# EAGLE library part PIC16F1829 (library carrilib)
Microcontroller, 8 bit Manufacturer: Microchip Part Number: PIC16F1829
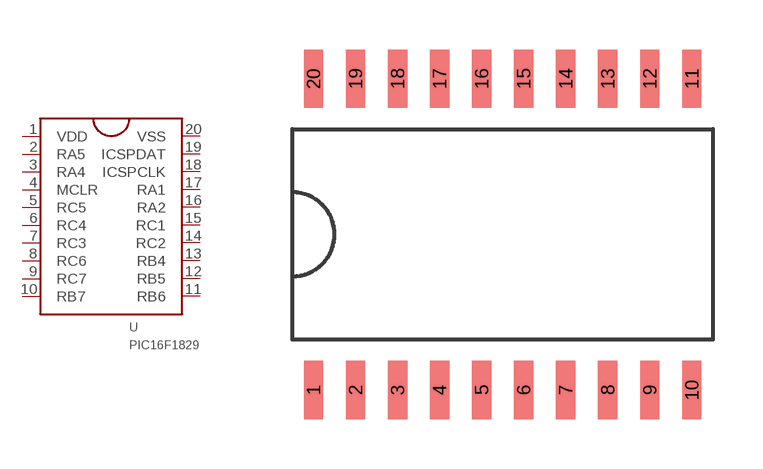
[diagram p15: symbol with the pads of SO20W; footprint SO20W]

Designator prefix U

## PIC16F1829  [SO20W]
1  VDD
2  RA5
3  RA4
4  MCLR
5  RC5
6  RC4
7  RC3
8  RC6
9  RC7
10  RB7
11  RB6
12  RB5
13  RB4
14  RC2
15  RC1
16  RA2
17  RA1
18  ICSPCLK
19  ICSPDAT
20  VSS

## Footprint SO20W (pad centres in mm)
smd 0.584 x 1.753: 1 -5.715,-4.699; 2 -4.445,-4.699; 3 -3.175,-4.699; 4 -1.905,-4.699; 5 -0.635,-4.699; 6 0.635,-4.699; 7 1.905,-4.699; 8 3.175,-4.699; 9 4.445,-4.699; 10 5.715,-4.699; 11 5.715,4.699; 12 4.445,4.699; 13 3.175,4.699; 14 1.905,4.699; 15 0.635,4.699; 16 -0.635,4.699; 17 -1.905,4.699; 18 -3.175,4.699; 19 -4.445,4.699; 20 -5.715,4.699